# Altium schematic symbol library anodepattern.SchLib: 1 symbol
Pins are listed as number, name and electrical type; pins without a type are passive.

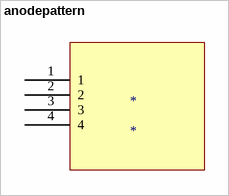
[diagram p0: symbol anodepattern]

## anodepattern
designator *
footprint anodepattern
pins: 1, 2, 3, 4